# Altium footprint library Crazy_PCB.PcbLib: 155 footprints (part 1 of 10)
Each footprint in its own frame and in the unit in brackets; x right, y up, seen from the top. Pads: shape width x height; smd on the part's side, far side on the other; paste and mask are expansions set on the pad; w line width, h text height; cw(c..) or ccw(c..) is an arc to the next point about the centre after c.
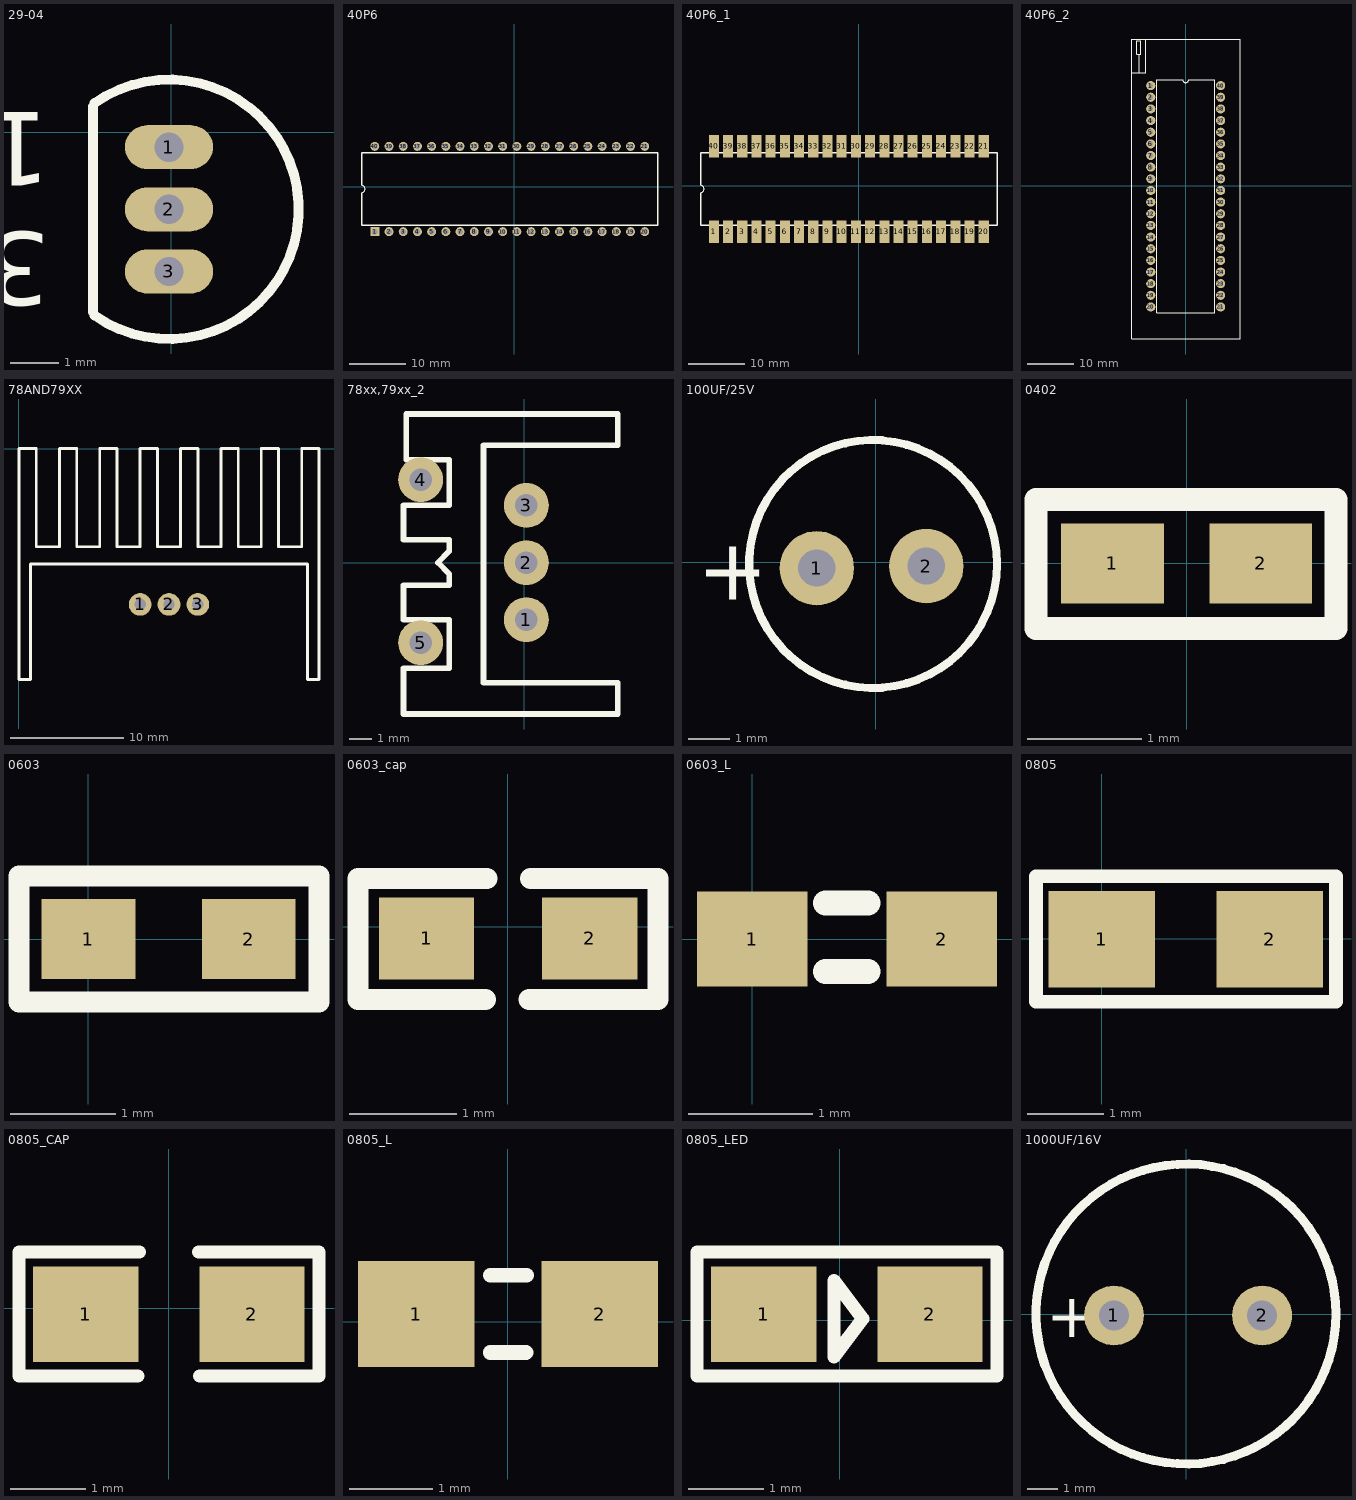
[diagram p0: the footprints below, top view; thin cyan lines are the x and y axes]

## 29-04 [mm]
pads (3):
  oval 1.8x0.9 hole 0.6: 1(-0.045,-0.305) 2(-0.045,-1.575) 3(-0.045,-2.845)
Top Overlay:
  lines w0.2: -1.595,-3.675 -1.595,0.525 ; -1.565,-3.746 ccw(c-0.045,-1.575) -1.565,0.596
  text "3" at -2.466,-2.042 h1.5
  text "1" at -2.466,0.404 h1.5

## 40P6 [mm]
pads (40):
  rect 1.6x1.6 hole 1: 1(-24.885,-8.065)
  round 1.6 hole 1: 2(-22.345,-8.065) 3(-19.805,-8.065) 4(-17.265,-8.065) 5(-14.725,-8.065) 6(-12.185,-8.065) 7(-9.645,-8.065) 8(-7.105,-8.065) 9(-4.565,-8.065) 10(-2.025,-8.065) 11(0.515,-8.065) 12(3.055,-8.065) 13(5.595,-8.065) 14(8.135,-8.065) 15(10.675,-8.065) 16(13.215,-8.065) 17(15.755,-8.065) 18(18.295,-8.065) 19(20.835,-8.065) 20(23.375,-8.065) 21(23.375,7.175) 22(20.835,7.175) 23(18.295,7.175) 24(15.755,7.175) 25(13.215,7.175) 26(10.675,7.175) 27(8.135,7.175) 28(5.595,7.175) 29(3.055,7.175) 30(0.515,7.175) 31(-2.025,7.175) 32(-4.565,7.175) 33(-7.105,7.175) 34(-9.645,7.175) 35(-12.185,7.175) 36(-14.725,7.175) 37(-17.265,7.175) 38(-19.805,7.175) 39(-22.345,7.175) 40(-24.885,7.175)
Top Overlay:
  lines w0.2: -27.255,-1.08 ccw(c-27.255,-0.445) -27.255,0.19
  lines w0.254: -27.255,-1.08 -27.255,-6.895 25.745,-6.895 25.745,6.005 -27.255,6.005 -27.255,0.19

## 40P6_1 [mm]
pads (40):
  rect 1.8x4 smd: 1(-25.873,-8.22) 2(-23.333,-8.22) 3(-20.793,-8.22) 4(-18.253,-8.22) 5(-15.713,-8.22) 6(-13.173,-8.22) 7(-10.633,-8.22) 8(-8.093,-8.22) 9(-5.553,-8.22) 10(-3.013,-8.22) 11(-0.473,-8.22) 12(2.067,-8.22) 13(4.607,-8.22) 14(7.147,-8.22) 15(9.687,-8.22) 16(12.227,-8.22) 17(14.767,-8.22) 18(17.307,-8.22) 19(19.847,-8.22) 20(22.387,-8.22) 21(22.387,7.02) 22(19.847,7.02) 23(17.307,7.02) 24(14.767,7.02) 25(12.227,7.02) 26(9.687,7.02) 27(7.147,7.02) 28(4.607,7.02) 29(2.067,7.02) 30(-0.473,7.02) 31(-3.013,7.02) 32(-5.553,7.02) 33(-8.093,7.02) 34(-10.633,7.02) 35(-13.173,7.02) 36(-15.713,7.02) 37(-18.253,7.02) 38(-20.793,7.02) 39(-23.333,7.02) 40(-25.873,7.02)
Top Overlay:
  lines w0.2: -28.243,-1.235 ccw(c-28.243,-0.6) -28.243,0.035
  lines w0.254: -28.243,-1.235 -28.243,-7.05 24.757,-7.05 24.757,5.85 -28.243,5.85 -28.243,0.035

## 40P6_2 [mm] "MCU_P40"
pads (40):
  round 2 hole 1: 1(-7.609,21.848) 2(-7.609,19.308) 3(-7.609,16.768) 4(-7.609,14.228) 5(-7.609,11.688) 6(-7.609,9.148) 7(-7.609,6.608) 8(-7.609,4.068) 9(-7.609,1.528) 10(-7.609,-1.012) 11(-7.609,-3.552) 12(-7.609,-6.092) 13(-7.609,-8.632) 14(-7.609,-11.172) 15(-7.609,-13.712) 16(-7.609,-16.252) 17(-7.609,-18.792) 18(-7.609,-21.332) 19(-7.609,-23.872) 20(-7.609,-26.412) 21(7.631,-26.412) 22(7.631,-23.872) 23(7.631,-21.332) 24(7.631,-18.792) 25(7.631,-16.252) 26(7.631,-13.712) 27(7.631,-11.172) 28(7.631,-8.632) 29(7.631,-6.092) 30(7.631,-3.552) 31(7.631,-1.012) 32(7.631,1.528) 33(7.631,4.068) 34(7.631,6.608) 35(7.631,9.148) 36(7.631,11.688) 37(7.631,14.228) 38(7.631,16.768) 39(7.631,19.308) 40(7.631,21.848)
Top Overlay:
  lines w0.25: -11.8,21.848 -11.8,32.008 11.949,32.008 11.949,21.848 11.949,-33.397 -9.006,-33.397 ; -11.8,22.61 -11.8,-33.397 -8.879,-33.397 ; -11.673,24.642 -8.752,24.642 -8.752,26.801 -8.752,32.008 ; -10.149,24.642 -10.149,28.706 ; -9.768,28.833 -9.768,28.706 ; -0.624,23.118 -6.339,23.118 -6.339,-27.682 6.361,-27.682 6.361,23.118 0.646,23.118 ; -9.768,28.706 -10.657,28.706 -10.657,31.627 -9.768,31.627 -9.768,28.706
  lines w0.254: -0.624,23.118 ccw(c0.011,23.118) 0.646,23.118

## 78AND79XX [mm]
height 6.35
pads (3):
  round 2 hole 1: 1(10.668,-13.716) 2(13.208,-13.716) 3(15.748,-13.716)
Top Overlay:
  lines w0.25: 0,-20.32 1.016,-20.32 1.016,-10.16 24.384,-10.16 25.4,-10.16 25.4,-20.32 26.416,-20.32 26.416,0 24.892,0 24.892,-8.636 24.384,-8.636 23.876,-8.636 22.86,-8.636 22.86,0 21.336,0 21.336,-8.636 19.304,-8.636 19.304,0 17.78,0 17.78,-8.636 15.748,-8.636 15.748,0 14.224,0 14.224,-8.636 12.192,-8.636 12.192,0 10.668,0 10.668,-8.636 8.636,-8.636 8.636,0 7.112,0 7.112,-8.636 5.08,-8.636 5.08,0 4.572,0 3.556,0 3.556,-8.636 3.048,-8.636 1.524,-8.636 1.524,0 0,0 0,-10.16 0,-20.32

## 78xx,79xx_2 [mm]
pads (5):
  round 2 hole 1: 1(0.097,-2.526) 2(0.097,0.014) 3(0.097,2.554) 4(-4.602,3.697) 5(-4.602,-3.542)
Top Overlay:
  lines w0.25: -5.364,-6.717 -5.364,-4.685 -3.332,-4.685 -3.332,-2.526 -5.364,-2.526 -5.364,-1.002 -3.332,-1.002 -3.332,-0.494 -3.84,0.014 -3.332,0.522 -3.332,1.03 -5.364,1.03 -5.364,2.554 -3.332,2.554 -3.332,4.586 -5.237,4.586 -5.237,6.618 4.161,6.618 4.161,5.221 -1.808,5.221 -1.808,-5.32 4.161,-5.32 4.161,-6.717 -3.332,-6.717 -5.364,-6.717

## 100UF/25V [mm]
height 8
pads (2):
  round 1.8 hole 0.9: 1(-1.42,-0.14) 2(1.23,-0.09)
Top Overlay:
  circle w0.2: c-0.06,-0.04 r3
  text "+" at -4.32,-0.9 h1.5

## 0402 [mm] "Chip Capacitor; Body 1.0 x 0.5 mm (LxW typ)"
height 1.35
pads (2):
  rect 0.9x0.7 smd: 1(-0.65,0) 2(0.65,0)
Top Overlay:
  lines w0.2: -1.32,-0.57 -1.32,0.56 1.31,0.56 1.31,-0.57 -1.32,-0.57

## 0603 [mil]
height 82.68
pads (2):
  rect 35x30 smd: 1(0,0) 2(60,0)
Top Overlay:
  lines w7.87: -25.98,-23.62 -25.98,23.62 86.22,23.62 86.22,-23.62 -25.98,-23.62
3D body: height 39.37, standoff 0, extent -21.5,-19 81.5,19

## 0603_cap [mil]
height 82.68
pads (2):
  rect 35x30 smd: 1(-29.92,-4.33) 2(30.08,-4.33)
Top Overlay:
  lines w7.87: -8.27,-26.77 -55.12,-26.77 -55.12,17.72 -7.87,17.72 ; 7.87,-26.77 55.12,-26.77 55.12,17.72 8.27,17.72

## 0603_L [mil]
height 82.68
pads (2):
  rect 35x30 smd: 1(0,0) 2(60,0)
Top Overlay:
  lines w7.87: 23.23,-10.24 36.61,-10.24 ; 23.23,11.42 36.61,11.42

## 0805 [mm]
height 2
pads (2):
  rect 1.4x1.27 smd: 1(-0.001,-0.007) 2(2.209,-0.007)
Top Overlay:
  lines w0.178: -0.864,-0.83 -0.864,0.82 3.078,0.82 3.078,-0.83 -0.864,-0.83
3D body: height 1, standoff 0, extent -0.803,-0.744 3.01,0.73

## 0805_CAP [mm]
height 2
pads (2):
  rect 1.4x1.27 smd: 1(-1.101,-0.077) 2(1.109,-0.077)
Top Overlay:
  lines w0.178: -0.41,-0.9 -1.99,-0.9 -1.99,0.75 -0.39,0.75 ; 0.4,0.75 2,0.75 2,-0.9 0.41,-0.9
3D body: height 1, standoff 0, extent -1.903,-0.814 1.91,0.66

## 0805_L [mm] "Inductor"
height 2
pads (2):
  rect 1.4x1.27 smd: 1(-1.101,0.093) 2(1.109,0.093)
Top Overlay:
  lines w0.178: -0.21,-0.37 0.22,-0.37 ; -0.21,0.56 0.23,0.56
3D body: height 1, standoff 0, extent -1.903,-0.644 1.91,0.83

## 0805_LED [mm]
height 2
pads (2):
  rect 1.4x1.27 smd: 1(-1.011,0.083) 2(1.199,0.083)
Top Overlay:
  lines w0.178: -1.9,-0.74 -1.9,0.91 2.09,0.91 2.09,-0.74 -1.9,-0.74 ; -0.077,-0.485 -0.077,0.531 0.304,0.023 -0.077,-0.485
3D body: height 2, standoff 0, extent -1.813,-0.654 2,0.82

## 1000UF/16V [mm]
pads (2):
  round 2 hole 1: 1(-2.41,-0.04) 2(2.53,-0.04)
Top Overlay:
  circle w0.3: c-0.01,0.01 r5
  text "+" at -4.66,-0.77 h1.5